# EAGLE library part MP1482 (library __MyCommonLib1)
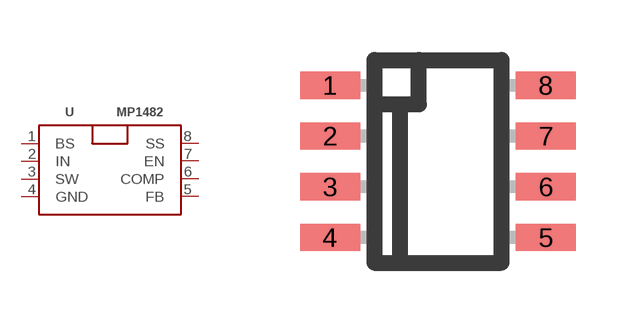
[diagram p25: symbol with the pads of SOIC8; footprint SOIC8]

Designator prefix -

## MP1482(SO-8)  [SOIC8]
1  BS
2  IN
3  SW
4  GND
5  FB
6  COMP
7  EN
8  SS

## Footprint SOIC8 (pad centres in mm)
smd 1.5 x 0.68: 1 -2.699,1.905; 2 -2.699,0.635; 3 -2.699,-0.635; 4 -2.699,-1.905; 5 2.699,-1.905; 6 2.699,-0.635; 7 2.699,0.635; 8 2.699,1.905